# EAGLE library part RADIO (library Custom Library)
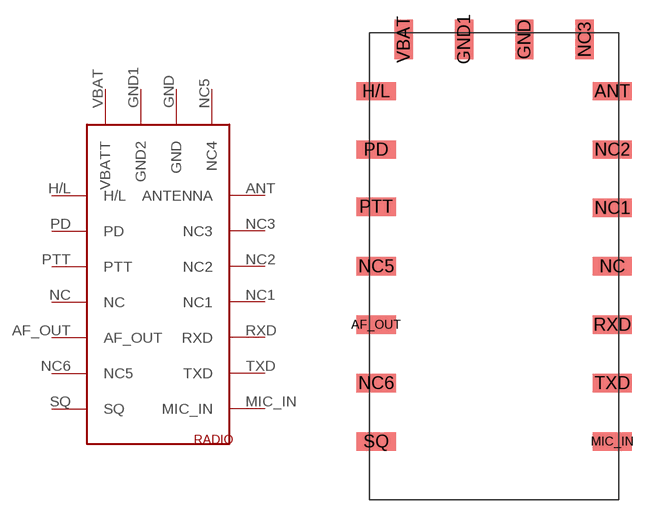
[diagram p4: symbol with the pads of RADIO; footprint RADIO]

Designator prefix -

## RADIO  [RADIO]
AF_OUT  AF_OUT
ANT  ANTENNA
GND  GND
GND1  GND2
H/L  H/L
MIC_IN  MIC_IN
NC  NC
NC1  NC1
NC2  NC2
NC3  NC3
NC5  NC4
NC6  NC5
PD  PD
PTT  PTT
RXD  RXD
SQ  SQ
TXD  TXD
VBAT  VBATT

## Footprint RADIO (pad centres in mm)
smd 3 x 1.4: AF_OUT 0.5,13.35; ANT 18.5,31.15; H/L 0.5,31.15; MIC_IN 18.5,4.45; NC 18.5,17.8; NC1 18.5,22.25; NC2 18.5,26.7; NC5 0.5,17.8; NC6 0.5,8.9; PD 0.5,26.7; PTT 0.5,22.35; RXD 18.5,13.35; SQ 0.5,4.45; TXD 18.5,8.9
smd 1.4 x 3: GND 11.8,35.1; GND1 7.2,35.1; NC3 16.4,35.1; VBAT 2.6,35.1